# Altium footprint library WreckerCar_PcbLib.PcbLib: 65 footprints (part 4 of 5)
Each footprint in its own frame and in the unit in brackets; x right, y up, seen from the top. Pads: shape width x height; smd on the part's side, far side on the other; paste and mask are expansions set on the pad; w line width, h text height; cw(c..) or ccw(c..) is an arc to the next point about the centre after c.
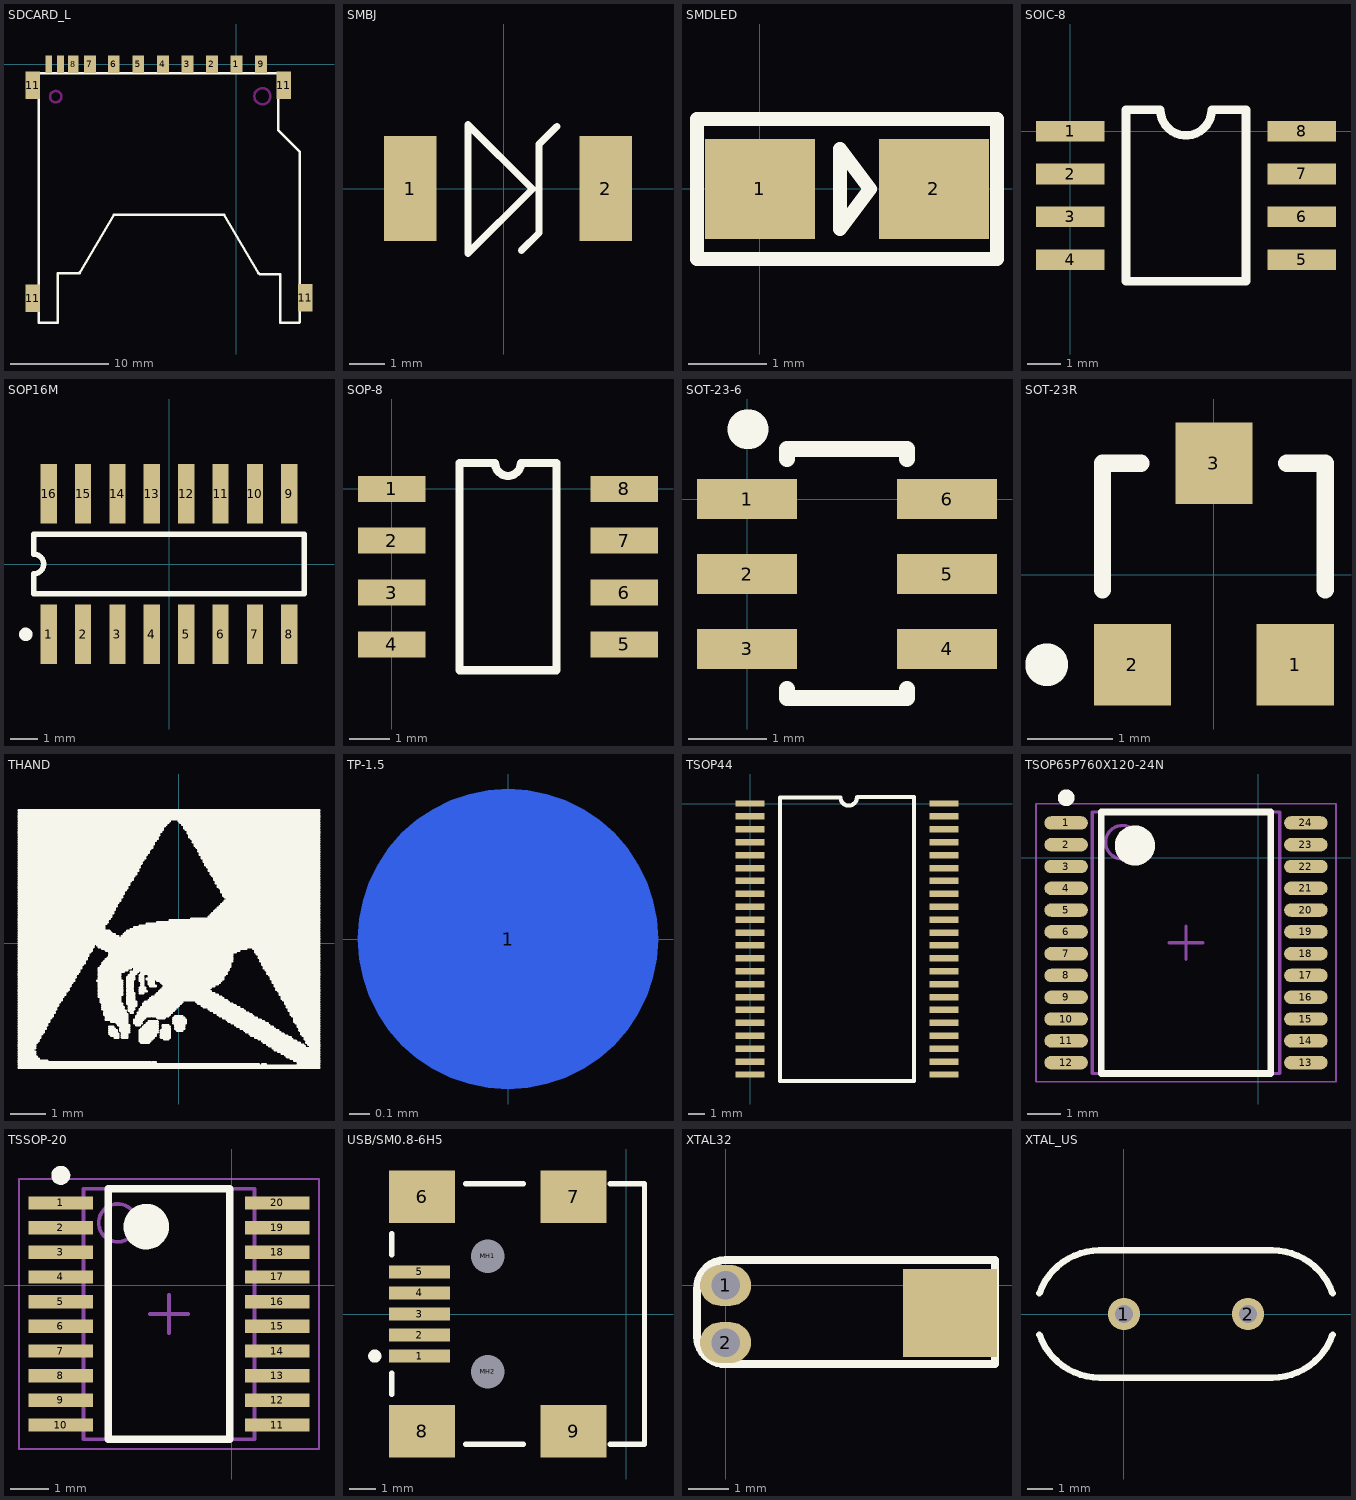
[diagram p3: the footprints below, top view; thin cyan lines are the x and y axes]

## SDCARD_L [mm]
pads (15):
  rect 1.2x1.8 smd: 1(0,0) 2(-2.489,0) 3(-4.983,-0.009) 4(-7.483,-0.009) 5(-9.983,-0.009) 6(-12.483,-0.009) 7(-14.908,-0.009) 9(2.517,-0.009)
  rect 1.1x1.8 smd: 8(-16.612,0)
  rect 0.7x1.8 smd: 10(-17.908,-0.009) 12(-19.101,0)
  rect 1.5x2.8 smd: 11(-20.726,-23.834) 11(-20.726,-2.143) 11(4.826,-2.143) 11(7.01,-23.784)
Top Overlay:
  lines w0.254: -18.158,-21.3 -18.158,-26.3 -20.131,-26.3 -20.131,-0.914 -20.117,-0.9 4.242,-0.9 4.242,-6.71 6.431,-8.899 6.442,-8.899 6.442,-26.273 6.415,-26.3 4.442,-26.3 4.442,-21.402 2.4,-21.402 2.242,-21.244 ; -18.107,-21.294 -16.065,-21.294 -15.907,-21.136 ; -15.958,-21.294 -12.446,-15.3 ; -12.458,-15.3 -1.258,-15.3 2.242,-21.294
Keep-Out Layer:
  circle w0.254: c2.642,-3.26 r0.82
  circle w0.254: c-18.39,-3.3 r0.58

## SMBJ [mm]
pads (2):
  rect 1.5x3 smd: 1(-2.667,0) 2(2.921,0)
Top Overlay:
  lines w0.203: 0.508,-1.778 1.016,-1.27 1.016,1.27 1.524,1.778 ; -1.016,-1.854 0.826,-0.013 -1.016,1.829 -1.016,-1.854

## SMDLED [mm]
pads (2):
  rect 1.4x1.27 smd: 1(0.001,-0.002) 2(2.211,-0.002)
Top Overlay:
  lines w0.178: 3.012,0.887 3.011,0.887 ; 3.011,0.887 3.011,-0.891 -0.799,-0.891 -0.799,-0.002 -0.799,0.887 3.011,0.887 ; 1.017,-0.51 1.017,0.506 1.398,-0.002 1.017,-0.51

## SOIC-8 [mil]
pads (8):
  rect 80x24 smd: 1(0,0) 2(0,-50.06) 3(0,-100.06) 4(0,-150.06) 5(270,-150) 6(270,-100) 7(270,-50) 8(270,0)
Top Overlay:
  lines w10: 75,24.94 75.06,25 105,25 ccw(c135,25) 165,25 204.94,25 205,24.94 205,-175.06 65,-175.06 65,24.94 95,24.94

## SOP16M [mm]
pads (16):
  rect 0.6x2.2 smd: 1(-4.445,-2.6) 2(-3.175,-2.6) 3(-1.905,-2.6) 4(-0.635,-2.6) 5(0.635,-2.6) 6(1.905,-2.6) 7(3.175,-2.6) 8(4.445,-2.6) 9(4.445,2.6) 10(3.175,2.6) 11(1.905,2.6) 12(0.635,2.6) 13(-0.635,2.6) 14(-1.905,2.6) 15(-3.175,2.6) 16(-4.445,2.6)
Top Overlay:
  circle w0.25: c-5.295,-2.6 r0.125
  lines w0.2: -5,-1.1 5,-1.1 5,1.1 -5,1.1 -5,0.367 cw(c-5,0) -5,-0.367 -5,-1.1

## SOP-8 [mil]
pads (8):
  rect 65x25 smd: 1(0,0) 2(0,-50) 3(0,-100) 4(0,-150) 5(224.41,-150) 6(224.41,-100) 7(224.41,-50) 8(224.41,0)
Top Overlay:
  lines w7.87: 65.37,-175 65.37,25 99.7,25 ccw(c112.2,25) 124.7,25 159.04,25 159.04,-175 65.37,-175

## SOT-23-6 [mil]
pads (6):
  rect 50x20 smd: 1(0,0) 2(0,-37.4) 3(0,-74.8) 4(100,-74.8) 5(100,-37.4) 6(100,0)
Top Overlay:
  lines w8: 20,-95 20,-99.32 80,-99.32 80,-95 ; 20,20 20,25 80,25 80,20
  lines w19.68: 0,35 1,35

## SOT-23R [mm]
pads (3):
  rect 0.9x0.95 smd: 1(0.95,-1.048) 2(-0.95,-1.048) 3(0,1.302)
Top Overlay:
  circle w0.25: c-1.95,-1.048 r0.125
  lines w0.2: -1.3,-0.173 -1.3,1.302 -0.85,1.302 ; 0.85,1.302 1.3,1.302 1.3,-0.173

## THAND [mm]
Top Overlay:
  drawing of 472 lines, arcs and shapes, not listed

## TP-1.5 [mm]
pads (1):
  round 1.5 smd far side: 1(0,0)

## TSOP44 [mm]
pads (44):
  rect 1.8x0.4 smd: 1(-0.009,0.001) 2(-0.009,-0.799) 3(-0.009,-1.599) 4(-0.009,-2.399) 5(-0.009,-3.199) 6(-0.009,-3.999) 7(-0.009,-4.799) 8(-0.009,-5.599) 9(-0.009,-6.399) 10(-0.009,-7.199) 11(-0.009,-7.999) 12(-0.009,-8.799) 13(-0.009,-9.599) 14(-0.009,-10.399) 15(-0.009,-11.199) 16(-0.009,-11.999) 17(-0.009,-12.799) 18(-0.009,-13.599) 19(-0.009,-14.399) 20(-0.009,-15.199) 21(-0.009,-15.999) 22(-0.009,-16.799) 23(11.991,-16.799) 24(11.991,-15.999) 25(11.991,-15.199) 26(11.991,-14.399) 27(11.991,-13.599) 28(11.991,-12.799) 29(11.991,-11.999) 30(11.991,-11.199) 31(11.991,-10.399) 32(11.991,-9.599) 33(11.991,-8.799) 34(11.991,-7.999) 35(11.991,-7.199) 36(11.991,-6.399) 37(11.991,-5.599) 38(11.991,-4.799) 39(11.991,-3.999) 40(11.991,-3.199) 41(11.991,-2.399) 42(11.991,-1.599) 43(11.991,-0.799) 44(11.991,0.001)
Top Overlay:
  lines w0.2: 1.826,-17.199 10.156,-17.199
  lines w0.254: 6.604,0.381 cw(c6.096,0.381) 5.588,0.381 1.846,0.381 1.846,-17.18 1.826,-17.199 10.156,-17.199 ; 6.624,0.401 10.156,0.401 10.156,-17.199 ; 10.156,-17.199 10.156,-17.199

## TSOP65P760X120-24N [mm]
pads (24):
  oval 1.3x0.4 smd: 1(-5.734,1.035) 2(-5.734,0.385) 3(-5.734,-0.265) 4(-5.734,-0.915) 5(-5.734,-1.565) 6(-5.734,-2.215) 7(-5.734,-2.865) 8(-5.734,-3.515) 9(-5.734,-4.165) 10(-5.734,-4.815) 11(-5.734,-5.465) 12(-5.734,-6.115) 13(1.416,-6.115) 14(1.416,-5.465) 15(1.416,-4.815) 16(1.416,-4.165) 17(1.416,-3.515) 18(1.416,-2.865) 19(1.416,-2.215) 20(1.416,-1.565) 21(1.416,-0.915) 22(1.416,-0.265) 23(1.416,0.385) 24(1.416,1.035)
Top Overlay:
  circle w0.25: c-5.734,1.785 r0.125
  circle w0.6: c-3.684,0.36 r0.3
  lines w0.2: -4.684,-6.44 -4.684,1.36 0.366,1.36 0.366,-6.44 -4.684,-6.44
Mechanical 13:
  circle w0.1: c-4.059,0.46 r0.5
  lines w0.1: -4.959,-6.44 -4.959,1.36 0.641,1.36 0.641,-6.44 -4.959,-6.44
Mechanical 15:
  lines w0.05: -6.634,-6.69 -6.634,1.61 2.316,1.61 2.316,-6.69 -6.634,-6.69
  lines w0.1: -2.659,-2.54 -1.659,-2.54 ; -2.159,-3.04 -2.159,-2.04
3D body: height 1.2, standoff 0.05, extent -4.959,-6.44 0.641,1.36

## TSSOP-20 [mm]
pads (20):
  rect 1.7x0.35 smd: 1(-4.501,2.163) 2(-4.501,1.513) 3(-4.501,0.863) 4(-4.501,0.213) 5(-4.501,-0.437) 6(-4.501,-1.087) 7(-4.501,-1.737) 8(-4.501,-2.387) 9(-4.501,-3.037) 10(-4.501,-3.687) 11(1.199,-3.687) 12(1.199,-3.037) 13(1.199,-2.387) 14(1.199,-1.737) 15(1.199,-1.087) 16(1.199,-0.437) 17(1.199,0.213) 18(1.199,0.863) 19(1.199,1.513) 20(1.199,2.163)
Top Overlay:
  circle w0.6: c-2.251,1.538 r0.3
  circle w0.25: c-4.501,2.888 r0.125
  lines w0.2: -3.251,-4.062 -0.051,-4.062 -0.051,2.538 -3.251,2.538 -3.251,-4.062
Mechanical 13:
  circle w0.1: c-3.001,1.638 r0.5
  lines w0.1: -3.901,-4.062 0.599,-4.062 0.599,2.538 -3.901,2.538 -3.901,-4.062
Mechanical 15:
  lines w0.05: -5.601,-4.312 2.299,-4.312 2.299,2.788 -5.601,2.788 -5.601,-4.312
  lines w0.1: -2.151,-0.762 -1.151,-0.762 ; -1.651,-1.262 -1.651,-0.262
3D body: height 1.1, standoff 0.05, extent -3.901,-4.062 0.599,2.538

## USB/SM0.8-6H5 [mm]
pads (11):
  rect 2.3x0.5 smd: 1(-7.85,-1.6) 2(-7.85,-0.8) 3(-7.85,0) 4(-7.85,0.8) 5(-7.85,1.6)
  rect 2.5x2 smd: 6(-7.75,4.45) 7(-1.996,4.45) 8(-7.75,-4.45) 9(-1.996,-4.45)
  round 0.6 hole 1.27 unplated: MH1(-5.25,2.2) MH2(-5.25,-2.2)
Top Overlay:
  circle w0.25: c-9.55,-1.6 r0.125
  lines w0.2: -8.9,-3.05 -8.9,-2.25 ; -8.9,2.25 -8.9,3.05 ; -6.1,-4.95 -3.9,-4.95 ; -6.1,4.95 -3.9,4.95 ; -0.6,-4.95 0.7,-4.95 0.7,4.95 -0.6,4.95

## XTAL32 [mil]
pads (3):
  oval 50x40 hole 28: 1(0,0) 2(0,-56)
  rect 92.13x86 smd: ""(220,-27)
Top Overlay:
  lines w8: -28,-50 ccw(c-0.5,-49.5) 0,-77 264,-77 264,25 0,25 ccw(c0.5,-3.5) -28,-4 -28,-50

## XTAL_US [mil]
pads (2):
  round 50 hole 28: 1(0,0) 2(192.13,0)
Top Overlay:
  lines w10: -130.92,-31.85 ccw(c-37.79,0) -37.79,-98.42 ; -130.92,31.85 cw(c-37.79,0) -37.79,98.43 ; -38,98.42 229.92,98.43 cw(c229.92,0) 323.05,31.85 ; -37.8,-98.43 229.92,-98.42 ccw(c229.92,0) 323.05,-31.85